# EAGLE library part MCP2210-I/SO (library MCP2210-I_SO)
MCP2210 Series 5.5 V 8 Channel USB to SPI Protocol Converter SMT - SSOP-20 Check prices <https://pricing.snapeda.com/parts/MCP2210-I/SO/Microchip%20Technology/view-part?ref=eda>
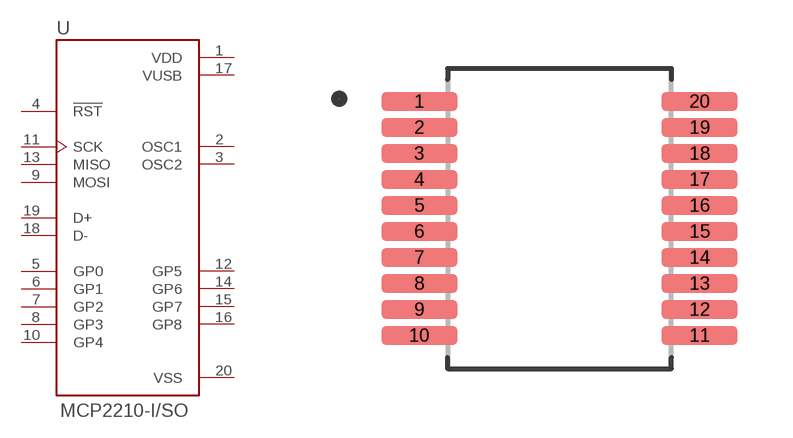
[diagram p0: symbol with the pads of SOP65P780X200-20N; footprint SOP65P780X200-20N]

Designator prefix U

## MCP2210-I/SO (Description: USB to SPI Protocol Converter with GPIO SPI Interface 5V Automotive 20-Pin SOIC W Tube; MF: Microchip Technology; MP: MCP2210-I/SO; Package: None; Price: None)  [SOP65P780X200-20N]
1  VDD  pwr
2  OSC1  in
3  OSC2  out
4  !RST  in
5  GP0
6  GP1
7  GP2
8  GP3
9  MOSI  out
10  GP4
11  SCK  out
12  GP5
13  MISO  in
14  GP6
15  GP7
16  GP8
17  VUSB  pwr
18  D-
19  D+
20  VSS  pwr

## Footprint SOP65P780X200-20N (pad centres in mm)
smd 1.9 x 0.48: 1 -3.505,2.925; 2 -3.505,2.275; 3 -3.505,1.625; 4 -3.505,0.975; 5 -3.505,0.325; 6 -3.505,-0.325; 7 -3.505,-0.975; 8 -3.505,-1.625; 9 -3.505,-2.275; 10 -3.505,-2.925; 11 3.505,-2.925; 12 3.505,-2.275; 13 3.505,-1.625; 14 3.505,-0.975; 15 3.505,-0.325; 16 3.505,0.325; 17 3.505,0.975; 18 3.505,1.625; 19 3.505,2.275; 20 3.505,2.925